# Altium schematic symbol library BSS84.SchLib: 1 symbol
Pins are listed as number, name and electrical type; pins without a type are passive.

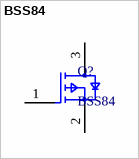
[diagram p0: symbol BSS84]

## BSS84
designator Q?
P-mosfet
footprint FP-SOT23-IPC_A
footprint FP-SOT23-IPC_B
footprint FP-SOT23-IPC_C
footprint FP-SOT23-MFG
pins: 1 G, 2 S, 3 D